# Altium footprint library JD_Amplifier.PcbLib: 1 footprints
Each footprint in its own frame and in the unit in brackets; x right, y up, seen from the top. Pads: shape width x height; smd on the part's side, far side on the other; paste and mask are expansions set on the pad; w line width, h text height; cw(c..) or ccw(c..) is an arc to the next point about the centre after c.
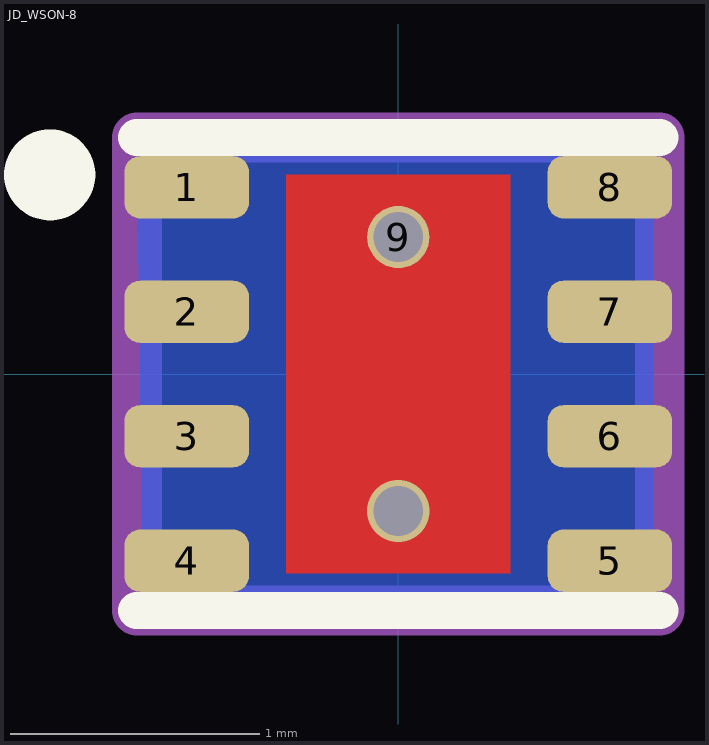
[diagram p0: the footprint, top view; thin cyan lines are the x and y axes]

## JD_WSON-8 [mm] "JD_WSON-8"
height 0.8
pads (9):
  rrect50% 0.5x0.25 smd paste+0: 1(-0.85,0.75) 2(-0.85,0.25) 3(-0.85,-0.25) 4(-0.85,-0.75) 5(0.85,-0.75) 6(0.85,-0.25) 7(0.85,0.25) 8(0.85,0.75)
  round 0.25 hole 0.2: 9(0,0.55)
via 0,-0.55 diameter 0.25 hole 0.2
Top Layer:
  region: -0.45,0.8 0.45,0.8 0.45,-0.8 -0.45,-0.8
Bottom Layer:
  region: -1.05,0.95 1.075,0.95 1.025,0.9 1.025,-0.975 -1,-0.975 -1.025,-0.95
Top Overlay:
  circle w0.254: c-1.4,0.8 r0.056
  lines w0.15: -1.05,-0.95 1.05,-0.95 ; -1.05,0.95 1.05,0.95
Top Paste:
  region: -0.45,-0.8 -0.45,-0.1 0.45,-0.1 0.45,-0.8
  region: -0.45,0.1 -0.45,0.8 0.45,0.8 0.45,0.1
Mechanical 13:
  lines w0.2: -1.05,-0.95 -1.05,0.95 1.05,0.95 1.05,-0.95 -1.05,-0.95